# EAGLE library part TMC332 (library trinamic)
TRINAMIC 1-axis high precision sequencer for 2- and 3-phase stepper motors Information given in this library is believed to be accurate and reliable. However no warranty is given for its correctness. Datasheet for TMC332 <http://www.trinamic.com/tmc/media/Downloads/integrated_circuits/TMC332/tmc332_datasheet.pdf> Description 1-axis high precision sequencer for 2- and 3-phase stepper motors The TMC332 is a high precision micro step sequencer with integrated PWM units. New smoothMod™ technology: equidistant µsteps, positioning on µsteps possible. Internal µstep counters with programmable step width make the handling of the physical units comfortable. The TMC428 step direction interface of the TMC332 is directly compatible to the driver chain interface of the TMC428 motion controller. The other step direction interface is a classical two wire step direction interface. Parameterizing of the TMC332 takes place over a common SPI micro controller interface. The integrated sine wave look up table can output either 2 sine waves with a phase shift of 90° for 2-phase stepper motors or 3 sine waves with +/- 120° phase shift for 3-phase motors. The gate control block of the TMC332 provides the gate control signals for the power stage half bridges, including programmable break before make timing and over current protection. Incremental encoders (ABN) to evaluate the physical motor position can be connected to the TMC332. The TMC332 also contains a current measurement unit and a current regulator, requiring only a few inexpensive external components. Switching to fullstep and the chopSync™ feature allow high velocity operation. Specifications Main characteristics 2-phase and 3-phase stepper motor control high precision µstep sequencer smoothMod™ for smooth motor operation 51k equidistant µsteps per rev. (200step 2-phase / 300step 3-phase motor) positioning on each µstep possible 9-bit PWM units, 8-bit PWM scaler 4-bit PWM sub-modulation for scaling quantization compensation PWM frequency programmable programmable break-before-make timing integrated current measurement ADC (just 2x LM339, 1x LM324 and some RC needed) integrated current regulation manual or automatic µstep-2-fullstep switching for higher velocities chopSync™ feature for high speed operation without resonance problems Interface classic two wire step/direction TMC428 driver chain step/direction common SPI for parammeterizing TMC332 and TMC428 Electrical data 3.3V compatible I/Os 1.5V core supply Package FBGA144 (13*13mm2) RoHS compliant
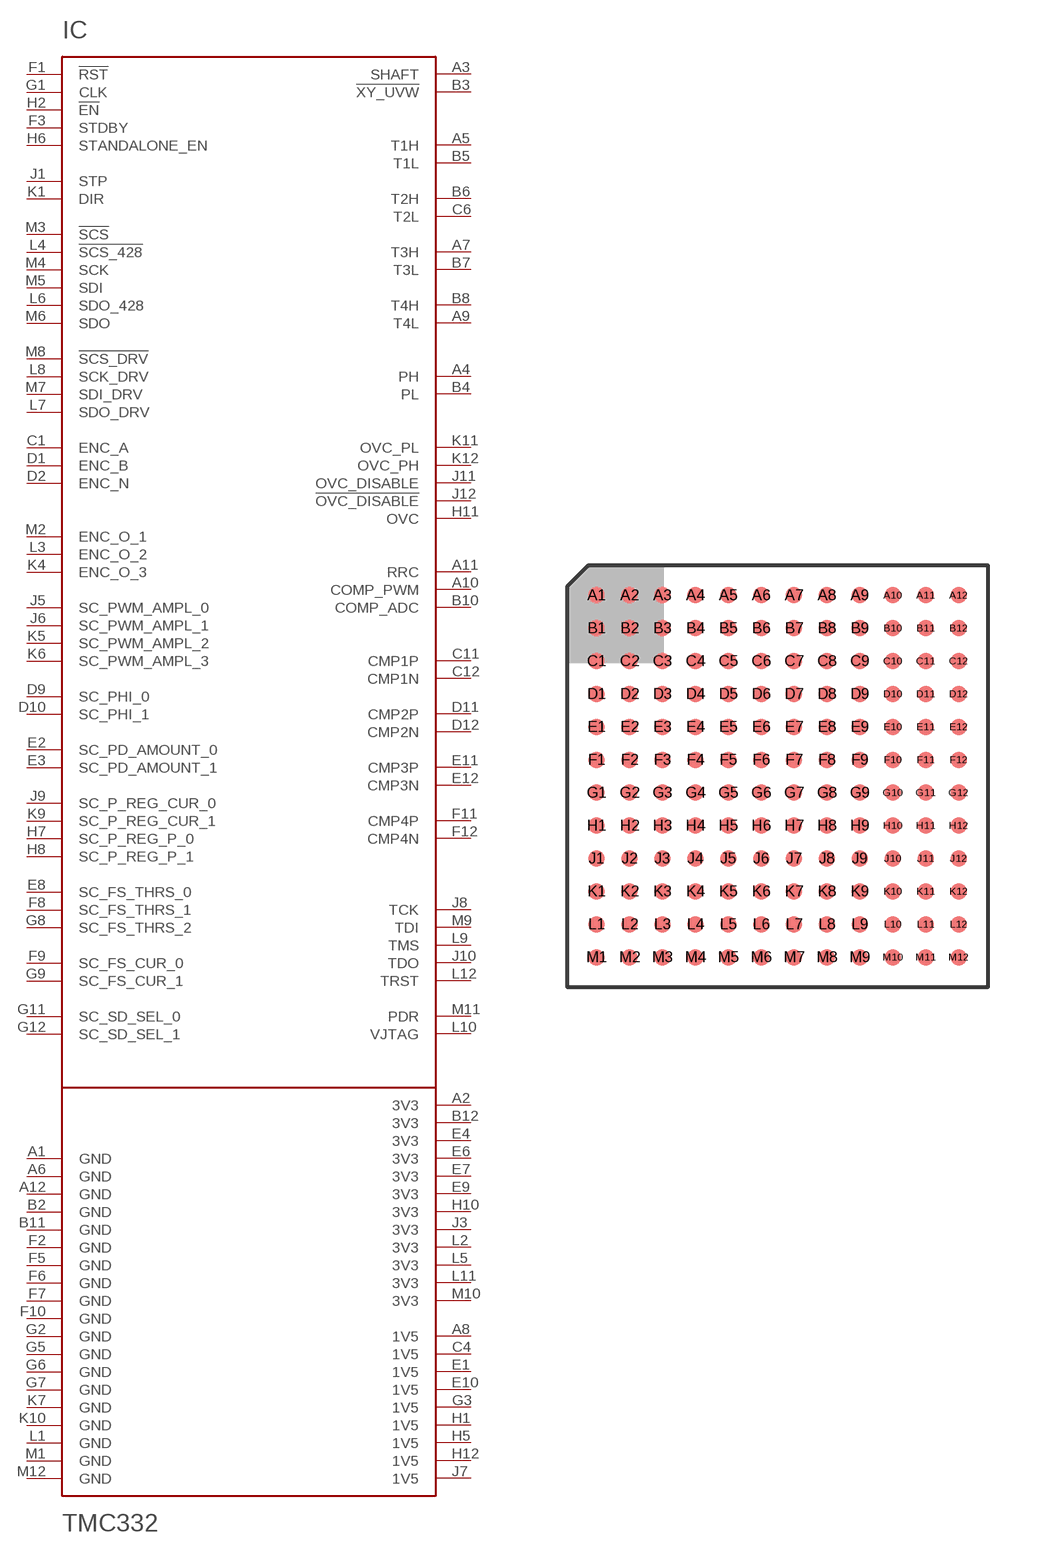
[diagram p24: symbol with the pads of FBGA144; footprint FBGA144]

Designator prefix IC

## TMC332  [FBGA144]
A1  GND  in
A2  3V3  in
A3  SHAFT  out
A4  PH  in
A5  T1H  out
A6  GND  in
A7  T3H  out
A8  1V5  in
A9  T4L  out
A10  COMP_PWM  out
A11  RRC  out
A12  GND  in
B2  GND  in
B3  !XY_UVW  out
B4  PL  in
B5  T1L  out
B6  T2H  out
B7  T3L  out
B8  T4H  out
B10  COMP_ADC  out
B11  GND  in
B12  3V3  in
C1  ENC_A  in
C4  1V5  in
C6  T2L  out
C11  CMP1P  in
C12  CMP1N  in
D1  ENC_B  in
D2  ENC_N  in
D9  SC_PHI_0  in
D10  SC_PHI_1  in
D11  CMP2P  in
D12  CMP2N  in
E1  1V5  in
E2  SC_PD_AMOUNT_0  in
E3  SC_PD_AMOUNT_1  in
E4  3V3  in
E6  3V3  in
E7  3V3  in
E8  SC_FS_THRS_0  in
E9  3V3  in
E10  1V5  in
E11  CMP3P  in
E12  CMP3N  in
F1  !RST  in
F2  GND  in
F3  STDBY  in
F5  GND  in
F6  GND  in
F7  GND  in
F8  SC_FS_THRS_1  in
F9  SC_FS_CUR_0  in
F10  GND  in
F11  CMP4P  in
F12  CMP4N  in
G1  CLK  in
G2  GND  in
G3  1V5  in
G5  GND  in
G6  GND  in
G7  GND  in
G8  SC_FS_THRS_2  in
G9  SC_FS_CUR_1  in
G11  SC_SD_SEL_0  in
G12  SC_SD_SEL_1  in
H1  1V5  in
H2  !EN  in
H5  1V5  in
H6  STANDALONE_EN  in
H7  SC_P_REG_P_0  in
H8  SC_P_REG_P_1  in
H10  3V3  in
H11  OVC  out
H12  1V5  in
J1  STP  in
J3  3V3  in
J5  SC_PWM_AMPL_0  in
J6  SC_PWM_AMPL_1  in
J7  1V5  in
J8  TCK
J9  SC_P_REG_CUR_0  in
J10  TDO
J11  OVC_DISABLE  in
J12  !OVC_DISABLE  in
K1  DIR  in
K4  ENC_O_3  out
K5  SC_PWM_AMPL_2  in
K6  SC_PWM_AMPL_3  in
K7  GND  in
K9  SC_P_REG_CUR_1  in
K10  GND  in
K11  OVC_PL  in
K12  OVC_PH  in
L1  GND  in
L2  3V3  in
L3  ENC_O_2  out
L4  !SCS_428  in
L5  3V3  in
L6  SDO_428  in
L7  SDO_DRV  out
L8  SCK_DRV  in
L9  TMS
L10  VJTAG  in
L11  3V3  in
L12  TRST
M1  GND  in
M2  ENC_O_1  out
M3  !SCS  in
M4  SCK  in
M5  SDI  in
M6  SDO  hiz
M7  SDI_DRV  in
M8  !SCS_DRV  in
M9  TDI
M10  3V3  in
M11  PDR  in
M12  GND  in

## Footprint FBGA144 (pad centres in mm)
smd 0.5 x 0.5: A1 -5.5,5.5; A2 -4.5,5.5; A3 -3.5,5.5; A4 -2.5,5.5; A5 -1.5,5.5; A6 -0.5,5.5; A7 0.5,5.5; A8 1.5,5.5; A9 2.5,5.5; A10 3.5,5.5; A11 4.5,5.5; A12 5.5,5.5; B1 -5.5,4.5; B2 -4.5,4.5; B3 -3.5,4.5; B4 -2.5,4.5; B5 -1.5,4.5; B6 -0.5,4.5; B7 0.5,4.5; B8 1.5,4.5; B9 2.5,4.5; B10 3.5,4.5; B11 4.5,4.5; B12 5.5,4.5; C1 -5.5,3.5; C2 -4.5,3.5; C3 -3.5,3.5; C4 -2.5,3.5; C5 -1.5,3.5; C6 -0.5,3.5; C7 0.5,3.5; C8 1.5,3.5; C9 2.5,3.5; C10 3.5,3.5; C11 4.5,3.5; C12 5.5,3.5; D1 -5.5,2.5; D2 -4.5,2.5; D3 -3.5,2.5; D4 -2.5,2.5; D5 -1.5,2.5; D6 -0.5,2.5; D7 0.5,2.5; D8 1.5,2.5; D9 2.5,2.5; D10 3.5,2.5; D11 4.5,2.5; D12 5.5,2.5; E1 -5.5,1.5; E2 -4.5,1.5; E3 -3.5,1.5; E4 -2.5,1.5; E5 -1.5,1.5; E6 -0.5,1.5; E7 0.5,1.5; E8 1.5,1.5; E9 2.5,1.5; E10 3.5,1.5; E11 4.5,1.5; E12 5.5,1.5; F1 -5.5,0.5; F2 -4.5,0.5; F3 -3.5,0.5; F4 -2.5,0.5; F5 -1.5,0.5; F6 -0.5,0.5; F7 0.5,0.5; F8 1.5,0.5; F9 2.5,0.5; F10 3.5,0.5; F11 4.5,0.5; F12 5.5,0.5; G1 -5.5,-0.5; G2 -4.5,-0.5; G3 -3.5,-0.5; G4 -2.5,-0.5; G5 -1.5,-0.5; G6 -0.5,-0.5; G7 0.5,-0.5; G8 1.5,-0.5; G9 2.5,-0.5; G10 3.5,-0.5; G11 4.5,-0.5; G12 5.5,-0.5; H1 -5.5,-1.5; H2 -4.5,-1.5; H3 -3.5,-1.5; H4 -2.5,-1.5; H5 -1.5,-1.5; H6 -0.5,-1.5; H7 0.5,-1.5; H8 1.5,-1.5; H9 2.5,-1.5; H10 3.5,-1.5; H11 4.5,-1.5; H12 5.5,-1.5; J1 -5.5,-2.5; J2 -4.5,-2.5; J3 -3.5,-2.5; J4 -2.5,-2.5; J5 -1.5,-2.5; J6 -0.5,-2.5; J7 0.5,-2.5; J8 1.5,-2.5; J9 2.5,-2.5; J10 3.5,-2.5; J11 4.5,-2.5; J12 5.5,-2.5; K1 -5.5,-3.5; K2 -4.5,-3.5; K3 -3.5,-3.5; K4 -2.5,-3.5; K5 -1.5,-3.5; K6 -0.5,-3.5; K7 0.5,-3.5; K8 1.5,-3.5; K9 2.5,-3.5; K10 3.5,-3.5; K11 4.5,-3.5; K12 5.5,-3.5; L1 -5.5,-4.5; L2 -4.5,-4.5; L3 -3.5,-4.5; L4 -2.5,-4.5; L5 -1.5,-4.5; L6 -0.5,-4.5; L7 0.5,-4.5; L8 1.5,-4.5; L9 2.5,-4.5; L10 3.5,-4.5; L11 4.5,-4.5; L12 5.5,-4.5; M1 -5.5,-5.5; M2 -4.5,-5.5; M3 -3.5,-5.5; M4 -2.5,-5.5; M5 -1.5,-5.5; M6 -0.5,-5.5; M7 0.5,-5.5; M8 1.5,-5.5; M9 2.5,-5.5; M10 3.5,-5.5; M11 4.5,-5.5; M12 5.5,-5.5